# Altium footprint library SignalCommunications.PCBLIB: 466 footprints (part 4 of 30)
Each footprint in its own frame and in the unit in brackets; x right, y up, seen from the top. Pads: shape width x height; smd on the part's side, far side on the other; paste and mask are expansions set on the pad; w line width, h text height; cw(c..) or ccw(c..) is an arc to the next point about the centre after c.
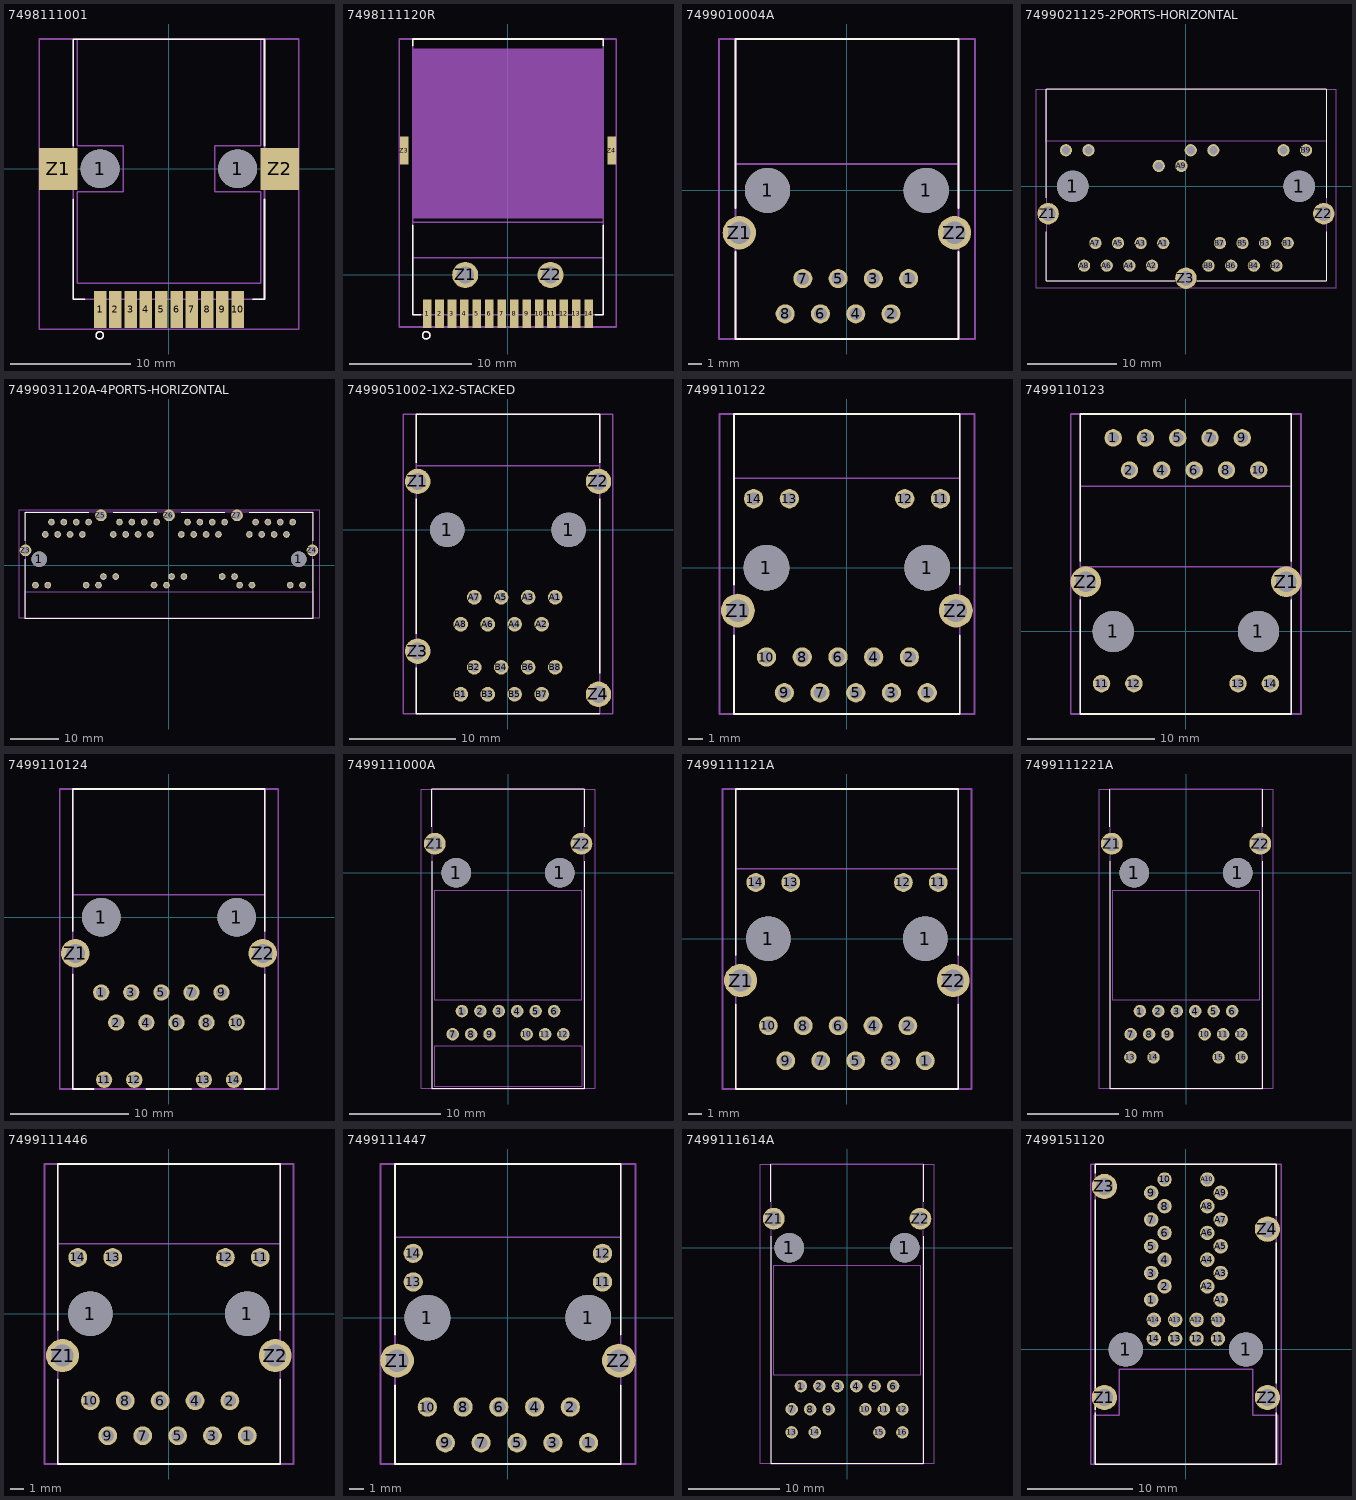
[diagram p3: the footprints below, top view; thin cyan lines are the x and y axes]

## 7498111001 [mil]
pads (14):
  rect 41x121 smd: 1(-225,-459.84) 2(-175,-459.84) 3(-125,-459.84) 4(-75,-459.84) 5(-25,-459.84) 6(25,-459.84) 7(75,-459.84) 8(125,-459.84) 9(175,-459.84) 10(225,-459.84)
  round 127 hole 127: 1(-225,0) 1(225,0)
  rect 126x138 smd: Z1(-362.2,0) Z2(363,0)
Top Overlay:
  circle w5: c-226.28,-544.98 r12
  lines w5: -312.6,-100 -312.6,-426.77 -275,-426.77 ; -312.6,75 -312.6,424 313,424 313,75 ; 275,-426.77 313,-426.77 313,-100
Mechanical 10:
  lines w5: -300,-375 300,-375 300,-75 150,-75 150,75 300,75 300,424 -300,424 -300,75 -150,75 -150,-75 -300,-75 -300,-375
Mechanical 16:
  circle w5: c-226.28,-544.98 r12
  lines w5: -312.6,-426.77 -312.6,424 313,424 313,-426.77 -312.6,-426.77
Mechanical 27:
  lines w5: -425,-525 425,-525 425,425 -425,425 -425,-525

## 7498111120R [mil]
pads (18):
  rect 28x91 smd: 1(-261.02,-125.2) 2(-220.87,-125.2) 3(-180.71,-125.2) 4(-140.55,-125.2) 5(-100.39,-125.2) 6(-60.24,-125.2) 7(-20.08,-125.2) 8(21,-125.2) 9(61,-125.2) 10(101,-125.2) 11(141,-125.2) 12(181,-125.2) 13(221,-125.2) 14(262,-125.2) Z3(-335.04,402) Z4(336,402)
  round 84 hole 56: Z1(-137.8,0) Z2(138,0)
Top Overlay:
  circle w5: c-263.78,-194.98 r12
  lines w5: -308.07,161 -308.07,-128.74 -281.1,-128.74 ; -308.07,741 -308.07,763 309,763 309,741 ; 282,-128.74 309,-128.74 309,161
Mechanical 1:
  rectangle: -307.48,182 308,732
Mechanical 10:
  lines w5: -308.07,55 309,55 309,170 -308.07,170 -308.07,55
Mechanical 11:
  rectangle: -307.48,182 308,732
Mechanical 16:
  circle w5: c-263.78,-194.98 r12
  lines w5: -308.07,-128.74 309,-128.74 309,763 -308.07,763 -308.07,-128.74
Mechanical 27:
  lines w5: -350.57,-168.25 351,-168.25 351,763 -350.57,763 -350.57,-168.25

## 7499010004A [mil]
pads (12):
  round 128 hole 128: 1(-225,0) 1(225,0)
  round 54 hole 36: 1(175,-250) 2(125,-350) 3(75,-250) 4(25,-350) 5(-25,-250) 6(-75,-350) 7(-125,-250) 8(-175,-350)
  round 94.5 hole 63: Z1(-304.92,-120.08) Z2(305,-120.08)
Top Overlay:
  lines w5: -315.75,-175 -315.75,-421.26 316,-421.26 316,-175 ; -315.75,-50 -315.75,429 316,429 316,-50
Mechanical 10:
  lines w5: -315.75,75 316,75 316,429 -315.75,429 -315.75,75
Mechanical 16:
  lines w5: -315.75,-421.26 -315.75,429 316,429 316,-421.26 -315.75,-421.26
  text "1" at 250,-225 h49.6
  text "8" at -225,-350 h49.6
Mechanical 27:
  lines w5: -362.5,-421.26 363,-421.26 363,429 -362.5,429 -362.5,-421.26

## 7499021125-2PORTS-HORIZONTAL [mil]
pads (29):
  round 139 hole 139: 1(-500,0) 1(500,0)
  round 54 hole 36: A1(-100,-250) A2(-150,-350) A3(-200,-250) A4(-250,-350) A5(-300,-250) A6(-350,-350) A7(-400,-250) A8(-450,-350) A9(-20.08,91) A10(-120.08,91) A11(-430.31,160) A12(-530.32,160) B1(450,-250) B2(400,-350) B3(350,-250) B4(300,-350) B5(250,-250) B6(200,-350) B7(150,-250) B8(100,-350) B9(531,160) B10(431,160) B11(121,160) B12(21,160)
  round 94.5 hole 63: Z1(-608.86,-120.08) Z2(609,-120.08) Z3(0,-405.12)
Top Overlay:
  lines w5: -618.11,-200 -618.11,-417.32 -50,-417.32 ; -618.11,-50 -618.11,430 619,430 619,-50 ; 50,-417.32 619,-417.32 619,-200
Mechanical 10:
  lines w5: -618.11,200 619,200 619,430 -618.11,430 -618.11,200
Mechanical 16:
  lines w5: -618.11,-417.32 -618.11,430 619,430 619,-417.32 -618.11,-417.32
  text "1" at -25,-225 h49.6
  text "8" at -500,-350 h49.6
  text "8" at 50,-300 h49.6
  text "1" at 525,-225 h49.6
Mechanical 27:
  lines w5: -662.5,-450 663,-450 663,430 -662.5,430 -662.5,-450

## 7499031120A-4PORTS-HORIZONTAL [mil]
pads (55):
  round 126 hole 126: 1(-1050,50) 1(1050,50)
  round 54 hole 36: A1(650,250) A2(700,350) A3(750,250) A4(800,350) A5(850,250) A6(900,350) A7(950,250) A8(1000,350) A9(430,-90.16) A10(530,-90.16) A11(980,-159.84) A12(1080,-159.84) B1(100,250) B2(150,350) B3(200,250) B4(250,350) B5(300,250) B6(350,350) B7(400,250) B8(450,350) B9(21,-90.16) B10(121,-90.16) B11(571,-159.84) B12(671,-159.84) C1(-450,250) C2(-400,350) C3(-350,250) C4(-300,350) C5(-250,250) C6(-200,350) C7(-150,250) C8(-100,350) C9(-529.92,-90.16) C10(-429.92,-90.16) C11(-120.87,-159.84) C12(-20.08,-159.84) D1(-1000,250) D2(-950,350) D3(-900,250) D4(-850,350) D5(-800,250) D6(-750,350) D7(-700,250) D8(-650,350) D9(-1079.53,-159.84) D10(-979.53,-159.84) D11(-670.08,-159.84) D12(-570.08,-159.84)
  round 94.5 hole 63: Z3(-1159.65,121) Z4(1160,121) Z5(-550,404) Z6(0,404) Z7(550,404)
Top Overlay:
  lines w5: -1164.96,-429.13 -1163.98,-429.13 ; -1163.98,50 -1163.98,-429.13 ; -1163.98,200 -1163.98,430 -650,430 ; -450,430 -100,430 ; 100,430 450,430 ; 650,430 1164,430 1164,200 ; 1164,50 1164,-429.13 ; 1165,-429.13 1164,-429.13 ; -1163.98,-429.13 1164,-429.13
Mechanical 10:
  lines w5: -1163.98,-429.13 1164,-429.13 1164,-212.5 -1163.98,-212.5 -1163.98,-429.13
Mechanical 16:
  lines w5: -1212.5,450 1213,450 ; -1163.98,-429.13 1164,-429.13 1164,430 -1163.98,430 -1163.98,-429.13
  text "1" at -1025,225 h49.6
  text "8" at -600,325 h49.6
  text "1" at -475,225 h49.6
  text "1" at 625,225 h49.6
  text "1" at 75,225 h49.6
  text "8" at -50,325 h49.6
  text "8" at 500,325 h49.6
  text "8" at 1050,325 h49.6
Mechanical 27:
  lines w5: -1212.5,450 -1212.5,-429.13 1213,-429.13 1213,450

## 7499051002-1X2-STACKED [mil]
pads (22):
  round 128 hole 128: 1(-225,0) 1(225,0)
  round 54 hole 36: A1(175,-250) A2(125,-350) A3(75,-250) A4(25,-350) A5(-25,-250) A6(-75,-350) A7(-125,-250) A8(-175,-350) B1(-175,-609.84) B2(-125,-509.84) B3(-75,-609.84) B4(-25,-509.84) B5(25,-609.84) B6(75,-509.84) B7(125,-609.84) B8(175,-509.84)
  round 94.5 hole 63: Z1(-335.04,180) Z2(336,180) Z3(-335.04,-450) Z4(336,-610.24)
Top Overlay:
  lines w5: -339.96,-511.81 -339.96,-683.07 340,-683.07 ; -339.96,-385.83 -339.96,115 ; -339.96,250 -339.96,430 340,430 340,250 ; 340,-531.5 340,115
Mechanical 10:
  lines w5: -339.96,238 340,238 340,430 -339.96,430 -339.96,238
Mechanical 16:
  lines w5: -339.96,-683.07 -339.96,430 340,430 340,-683.07 -339.96,-683.07
  text "1" at 250,-200 h49.6
  text "1" at -225,-625 h49.6
  text "8" at -225,-350 h49.6
  text "8" at 250,-475 h49.6
Mechanical 27:
  lines w5: -387.5,-683.07 388,-683.07 388,430 -387.5,430 -387.5,-683.07

## 7499110122 [mil]
pads (18):
  round 128 hole 128: 1(-225,0) 1(225,0)
  round 54 hole 36: 1(225,-350) 2(175,-250) 3(125,-350) 4(75,-250) 5(25,-350) 6(-25,-250) 7(-75,-350) 8(-125,-250) 9(-175,-350) 10(-225,-250) 11(262,193) 12(162,193) 13(-161.02,193) 14(-261.02,193)
  round 94.5 hole 63: Z1(-304.92,-120.08) Z2(305,-120.08)
Top Overlay:
  lines w5: -315.75,-188.98 -315.75,-409.45 316,-409.45 316,-188.98 ; -315.75,-47.24 -315.75,430 316,430 316,-47.24
Mechanical 10:
  lines w5: -315.75,250 -315.75,430 316,430 316,250 -315.75,250
Mechanical 16:
  lines w5: -315.75,-409.45 -315.75,430 316,430 316,-409.45 -315.75,-409.45
  text "1" at 250,-400 h37.2
  text "9" at -225,-400 h37.2
  text "10" at -300,-250 h37.2
  text "13" at -175,125 h37.2
  text "2" at 225,-250 h37.2
  text "11" at 250,125 h37.2
Mechanical 27:
  lines w5: -356.25,-409.45 357,-409.45 357,430 -356.25,430 -356.25,-409.45

## 7499110123 [mil]
pads (18):
  round 54 hole 36: 1(-225.2,600) 2(-174.8,500) 3(-125.2,600) 4(-74.8,500) 5(-25.2,600) 6(26,500) 7(75,600) 8(126,500) 9(175,600) 10(226,500) 11(-261.22,-161.81) 12(-161.22,-161.81) 13(162,-161.81) 14(262,-161.81)
  round 128 hole 128: 1(-225,0) 1(225,0)
  round 94.5 hole 63: Z1(311,154) Z2(-310.04,154)
Top Overlay:
  lines w5: -326.77,98 -326.77,-255.91 327,-255.91 327,98 ; -326.77,217 -326.77,674 327,674 327,217
Mechanical 10:
  lines w5: -326.77,200 -326.77,450 327,450 327,200 -326.77,200
Mechanical 16:
  lines w5: -326.77,-255.91 -326.77,674 327,674 327,-255.91 -326.77,-255.91
  text "1" at -250,650 h37.2
  text "9" at 225,650 h37.2
  text "10" at 300,500 h37.2
  text "13" at 175,-225 h37.2
  text "2" at -225,500 h37.2
  text "11" at -250,-225 h37.2
Mechanical 27:
  lines w5: -356.25,-255.91 357,-255.91 357,674 -356.25,674 -356.25,-255.91

## 7499110124 [mil]
pads (18):
  round 54 hole 36: 1(-225,-250) 2(-175,-350) 3(-125,-250) 4(-75,-350) 5(-25,-250) 6(25,-350) 7(75,-250) 8(125,-350) 9(175,-250) 10(225,-350) 11(-215.16,-540.16) 12(-115.16,-540.16) 13(116,-540.16) 14(216,-540.16)
  round 128 hole 128: 1(-225,0) 1(225,0)
  round 94.5 hole 63: Z1(-311.02,-120.08) Z2(312,-120.08)
Top Overlay:
  lines w5: -318.9,-188.98 -318.9,-570.87 -250,-570.87 ; -318.9,-47.24 -318.9,426 319,426 319,-47.24 ; -75,-570.87 75,-570.87 ; 250,-570.87 319,-570.87 319,-188.98
Mechanical 10:
  lines w5: -318.9,75 -318.9,426 319,426 319,75 -318.9,75
Mechanical 16:
  lines w5: -318.9,-570.87 -318.9,426 319,426 319,-570.87 -318.9,-570.87
  text "1" at -275,-225 h37.2
  text "9" at 225,-225 h37.2
  text "10" at 250,-425 h37.2
  text "6" at 25,-425 h37.2
  text "13" at 100,-500 h37.2
  text "2" at -225,-425 h37.2
  text "11" at -250,-500 h37.2
Mechanical 27:
  lines w5: -362.5,-570.87 363,-570.87 363,426 -362.5,426 -362.5,-570.87

## 7499111000A [mil]
pads (16):
  round 128 hole 128: 1(-225,0) 1(225,0)
  round 54 hole 36: 1(-199.8,-600) 2(-119.88,-600) 3(-39.96,-600) 4(40,-600) 5(120,-600) 6(200,-600) 7(-239.96,-700) 8(-160.04,-700) 9(-80.12,-700) 10(81,-700) 11(161,-700) 12(240,-700)
  round 94.5 hole 63: Z1(-317.52,126) Z2(318,126)
Top Overlay:
  lines w5: -330.51,50 -330.51,-937.4 331,-937.4 331,50 ; -330.51,200 -330.51,363 331,363 331,200
Mechanical 10:
  lines w5: -318.9,-926.77 319,-926.77 ; -318.9,-925.98 -318.9,-751.97 ; -318.9,-751.77 319,-751.77 ; 319,-925.98 319,-751.97 ; -318.9,-550 -318.9,-76.77 -318.9,-75 319,-75 319,-550 -318.9,-550
Mechanical 16:
  lines w5: -330.51,-937.4 -330.51,363 331,363 331,-937.4 -330.51,-937.4
  text "1" at -250,-600 h37.2
  text "9" at -50,-750 h37.2
  text "10" at 25,-750 h37.2
  text "6" at 250,-600 h37.2
Mechanical 27:
  lines w5: -375,-937.4 375,-937.4 375,363 -375,363 -375,-937.4

## 7499111121A [mil]
pads (18):
  round 128 hole 128: 1(-225,0) 1(225,0)
  round 54 hole 36: 1(225,-350) 2(175,-250) 3(125,-350) 4(75,-250) 5(25,-350) 6(-25,-250) 7(-75,-350) 8(-125,-250) 9(-175,-350) 10(-225,-250) 11(262,161) 12(162,161) 13(-161.02,161) 14(-261.02,161)
  round 94.5 hole 63: Z1(-304.92,-120.08) Z2(305,-120.08)
Top Overlay:
  lines w5: -318.9,-188.98 -318.9,-431.1 319,-431.1 319,-188.98 ; -318.9,-47.24 -318.9,429 319,429 319,-47.24
Mechanical 10:
  lines w5: -318.9,200 -318.9,429 319,429 319,200 -318.9,200
Mechanical 16:
  lines w5: -318.9,-431.1 -318.9,429 319,429 319,-431.1 -318.9,-431.1
  text "1" at 275,-425 h37.2
  text "9" at -225,-425 h37.2
  text "10" at -300,-225 h37.2
  text "13" at -150,200 h37.2
  text "2" at 225,-225 h37.2
  text "11" at 250,200 h37.2
Mechanical 27:
  lines w5: -356.25,-431.1 357,-431.1 357,429 -356.25,429 -356.25,-431.1

## 7499111221A [mil]
pads (20):
  round 128 hole 128: 1(-225,0) 1(225,0)
  round 54 hole 36: 1(-199.8,-600) 2(-119.88,-600) 3(-39.96,-600) 4(40,-600) 5(120,-600) 6(200,-600) 7(-239.96,-700) 8(-160.04,-700) 9(-80.12,-700) 10(81,-700) 11(161,-700) 12(240,-700) 13(-240.94,-800) 14(-140.94,-800) 15(141,-800) 16(241,-800)
  round 94.5 hole 63: Z1(-321.85,126) Z2(322,126)
Top Overlay:
  lines w5: -330.51,50 -330.51,-937.4 331,-937.4 331,50 ; -330.51,200 -330.51,363 ; 331,200 331,363
Mechanical 10:
  lines w5: 319,-75 319,-76.77 ; 319,-76.77 319,-550 -318.9,-550 -318.9,-76.77 319,-76.77
Mechanical 16:
  lines w5: -330.51,-937.4 -330.51,363 331,363 331,-937.4 -330.51,-937.4
  text "1" at -250,-600 h37.2
  text "9" at -50,-750 h37.2
  text "10" at 25,-750 h37.2
  text "6" at 250,-600 h37.2
  text "13" at -300,-850 h37.2
  text "16" at 200,-850 h37.2
Mechanical 27:
  lines w5: -375,-937.4 375,-937.4 375,363 -375,363 -375,-937.4

## 7499111446 [mil]
pads (18):
  round 128 hole 128: 1(-225,0) 1(225,0)
  round 54 hole 36: 1(225,-350) 2(175,-250) 3(125,-350) 4(75,-250) 5(25,-350) 6(-25,-250) 7(-75,-350) 8(-125,-250) 9(-175,-350) 10(-225,-250) 11(262,161) 12(162,161) 13(-161.02,161) 14(-261.02,161)
  round 94.5 hole 63: Z1(-304.92,-120.08) Z2(305,-120.08)
Top Overlay:
  lines w5: -318.9,-188.98 -318.9,-431.1 319,-431.1 319,-188.98 ; -318.9,-47.24 -318.9,429 319,429 319,-47.24
Mechanical 10:
  lines w5: -318.9,200 -318.9,429 319,429 319,200 -318.9,200
Mechanical 16:
  lines w5: -318.9,-431.1 -318.9,429 319,429 319,-431.1 -318.9,-431.1
  text "1" at 275,-400 h37.2
  text "9" at -225,-400 h37.2
  text "10" at -300,-225 h37.2
  text "13" at -150,200 h37.2
  text "2" at 225,-225 h37.2
  text "11" at 250,200 h37.2
Mechanical 27:
  lines w5: -356.25,-431.1 357,-431.1 357,429 -356.25,429 -356.25,-431.1

## 7499111447 [mil]
pads (18):
  round 128 hole 128: 1(-225,0) 1(225,0)
  round 54 hole 36: 1(226,-350) 2(175,-250) 3(126,-350) 4(75,-250) 5(26,-350) 6(-25.2,-250) 7(-74.8,-350) 8(-125.2,-250) 9(-174.8,-350) 10(-225.2,-250) 11(265,100) 12(265,180) 13(-264.76,100) 14(-264.76,180)
  round 94.5 hole 63: Z1(-310.04,-120.08) Z2(311,-120.08)
Top Overlay:
  lines w5: -315.75,-188.98 -315.75,-409.45 316,-409.45 316,-188.98 ; -315.75,-47.24 -315.75,430 316,430 316,-47.24
Mechanical 10:
  lines w5: -315.75,225 -315.75,430 316,430 316,225 -315.75,225
Mechanical 16:
  lines w5: -315.75,-409.45 -315.75,430 316,430 316,-409.45 -315.75,-409.45
  text "1" at 250,-400 h37.2
  text "9" at -225,-400 h37.2
  text "10" at -300,-225 h37.2
  text "13" at -225,100 h37.2
  text "2" at 226,-225 h37.2
  text "11" at 175,100 h37.2
Mechanical 27:
  lines w5: -356.25,-409.45 357,-409.45 357,430 -356.25,430 -356.25,-409.45

## 7499111614A [mil]
pads (20):
  round 128 hole 128: 1(-250,0) 1(250,0)
  round 54 hole 36: 1(-199.8,-600) 2(-119.88,-600) 3(-39.96,-600) 4(40,-600) 5(120,-600) 6(200,-600) 7(-239.57,-700) 8(-159.65,-700) 9(-79.72,-700) 10(80,-700) 11(160,-700) 12(240,-700) 13(-239.76,-800) 14(-139.76,-800) 15(140,-800) 16(240,-800)
  round 94.5 hole 63: Z1(-317.52,126) Z2(318,126)
Top Overlay:
  lines w5: -330.51,50 -330.51,-937.4 331,-937.4 331,50 ; -330.51,200 -330.51,363 ; 331,200 331,363
Mechanical 10:
  lines w5: 319,-75 319,-76.77 ; 319,-76.77 319,-550 -318.9,-550 -318.9,-76.77 319,-76.77
Mechanical 16:
  lines w5: -330.51,-937.4 -330.51,363 331,363 331,-937.4 -330.51,-937.4
  text "1" at -250,-600 h37.2
  text "9" at -50,-750 h37.2
  text "10" at 25,-750 h37.2
  text "6" at 250,-600 h37.2
  text "13" at -300,-850 h37.2
  text "16" at 200,-850 h37.2
Mechanical 27:
  lines w5: -375,-937.4 375,-937.4 375,363 -375,363 -375,-937.4

## 7499151120 [mil]
pads (34):
  round 128 hole 128: 1(-225,0) 1(225,0)
  round 54 hole 36: 1(-129.92,186) 2(-79.92,236) 3(-129.92,286) 4(-79.92,336) 5(-129.92,386) 6(-79.92,436) 7(-129.92,486) 8(-79.92,536) 9(-129.92,586) 10(-79.92,636) 11(120,40) 12(40,40) 13(-39.96,40) 14(-119.88,40) A1(130,186) A2(80,236) A3(130,286) A4(80,336) A5(130,386) A6(80,436) A7(130,486) A8(80,536) A9(130,586) A10(80,636) A11(120,111) A12(40,111) A13(-39.96,111) A14(-119.88,111)
  round 94.5 hole 63: Z1(-304.92,-179.92) Z2(305,-179.92) Z3(-304.92,610) Z4(305,450)
Top Overlay:
  lines w5: -338.78,-236.22 -338.78,-428.74 339,-428.74 339,-236.22 ; -338.78,-225.98 -338.78,560 ; -338.78,660 -338.78,694 339,694 339,500 ; 339,-125.98 339,400
Mechanical 10:
  lines w5: -343.9,-428.74 -343.9,-246.26 -250,-246.26 -250,-75 250,-75 250,-246.26 344,-246.26 344,-428.74 -343.9,-428.74
Mechanical 16:
  lines w5: -338.78,-428.74 -338.78,694 339,694 339,-428.74 -338.78,-428.74
  text "10" at 125,650 h37.2
  text "10" at -150,650 h37.2
  text "1" at 175,175 h37.2
  text "1" at -200,175 h37.2
  text "2" at 15,221 h37.2
  text "2" at -35.04,221 h37.2
  text "13" at -50,-25 h37.2
  text "11" at 100,-25 h37.2
  text "9" at -200,575 h37.2
  text "9" at 175,575 h37.2
Mechanical 27:
  lines w5: -356.25,-428.74 357,-428.74 357,694 -356.25,694 -356.25,-428.74